# Altium integrated library TI Peripheral Bus Interface Controller.IntLib: 17 symbols (part 1 of 2)
Pins are listed as number, name and electrical type; pins without a type are passive.

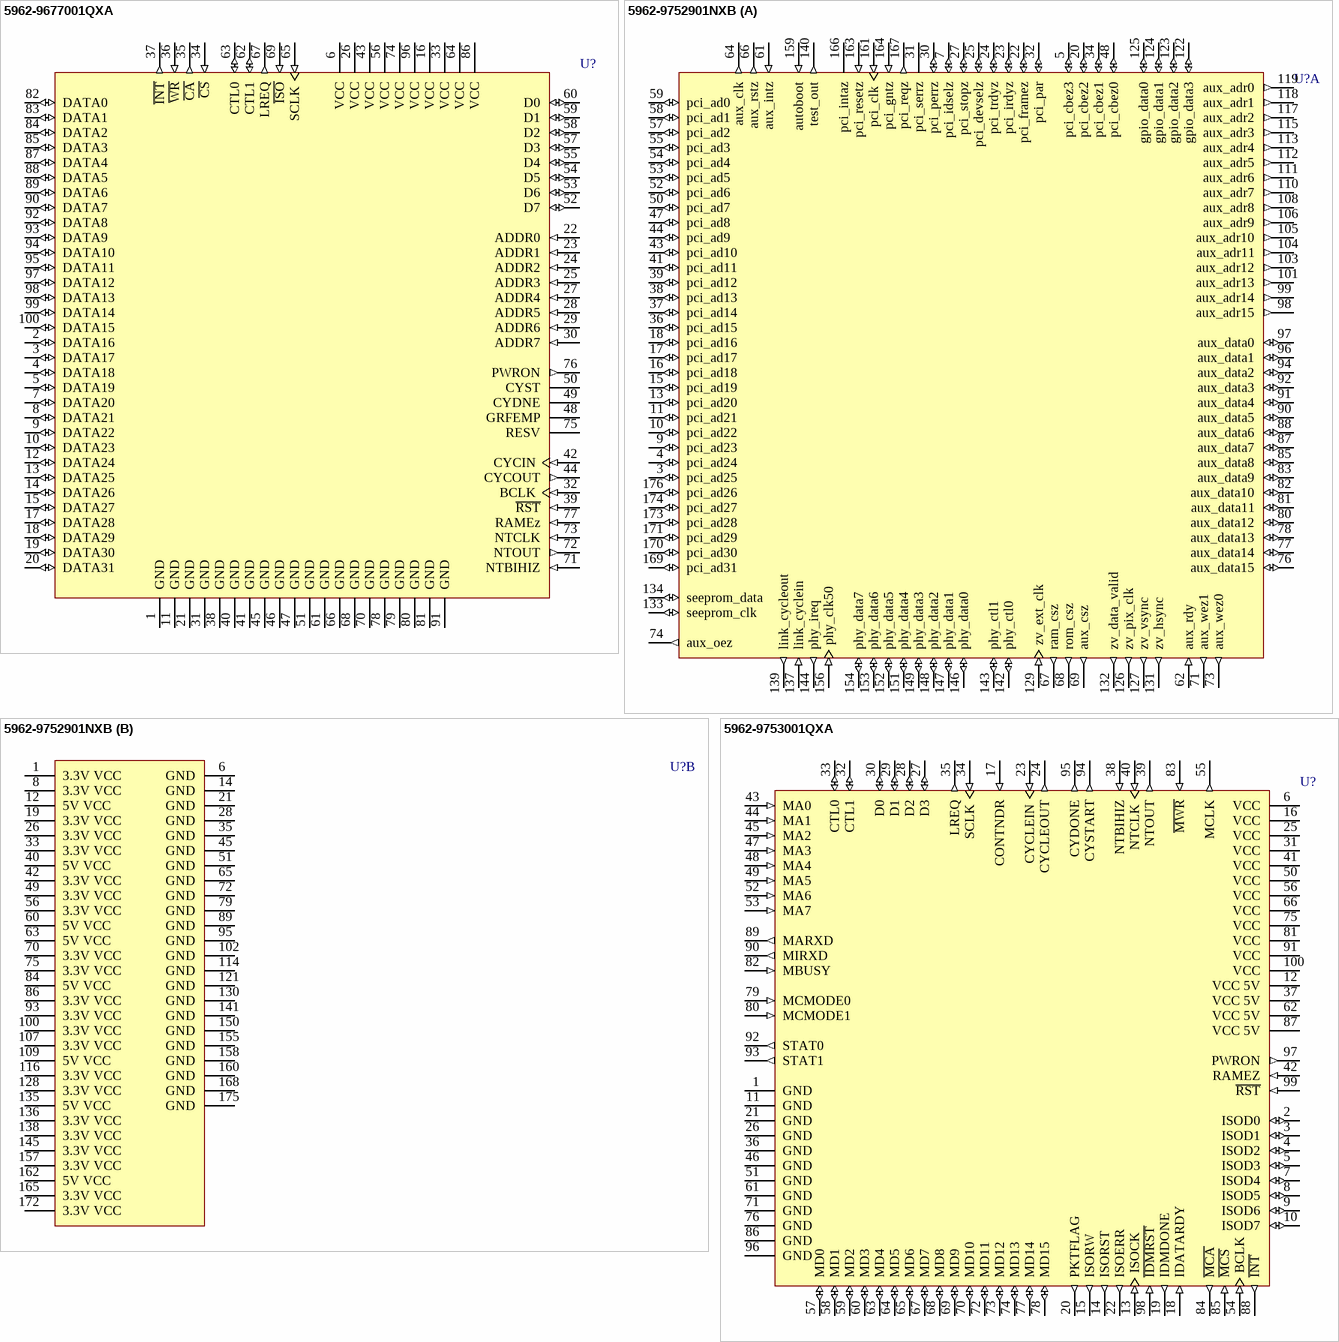
[diagram p0: symbols 5962-9677001QXA to 5962-9753001QXA]

## 5962-9677001QXA
designator U?
IEEE 1394-1995 High-Speed Serial-Bus Link-Layer Controller; Note: Pin 42 should be tied high if not used.  Pin 71 and 73 should be grounded and pin 72 open for normal operation.; ComponentAvailability: Obsolete; Published: 15-Apr-2002; LatestRevisionDate: 13-Apr-2006; LatestRevisionNote: IPC-7351 Footprint Added.; DatasheetVersion: Nov-1998; PackageVersion: Nov-1998; PackageReference: WN100; Publisher: Altium Limited; PackageDescription: 100-Pin Quad Flat Pack 0.65 mm Pitch; ComponentLink1Description: Manufacturer Link; ComponentLink1URL: http://www.ti.com/; ComponentLink2Description: Datasheet; ComponentLink2URL: http://www-s.ti.com/sc/ds/tsb12c01a.pdf
footprint WN100_N (QFP, 100-Leads, Body 19 x 19mm, Pitch 0.65mm, IPC Medium Density)
footprint WN100_L (QFP, 100-Leads, Body 19 x 19mm, Pitch 0.65mm, IPC High Density)
footprint WN100_M (QFP, 100-Leads, Body 19 x 19mm, Pitch 0.65mm, IPC Low Density)
3D model WN100 (100-Pin Quad Flat Pack 0.65 mm Pitch)
pins: 1 GND (power), 2 DATA16 (io), 3 DATA17 (io), 4 DATA18 (io), 5 DATA19 (io), 6 VCC (power), 7 DATA20 (io), 8 DATA21 (io), 9 DATA22 (io), 10 DATA23 (io), 11 GND (power), 12 DATA24 (io), 13 DATA25 (io), 14 DATA26 (io), 15 DATA27 (io), 16 VCC (power), 17 DATA28 (io), 18 DATA29 (io), 19 DATA30 (io), 20 DATA31 (io), 21 GND (power), 22 ADDR0 (in), 23 ADDR1 (in), 24 ADDR2 (in), 25 ADDR3 (in), 26 VCC (power), 27 ADDR4 (in), 28 ADDR5 (in), 29 ADDR6 (in), 30 ADDR7 (in), 31 GND (power), 32 BCLK (in), 33 VCC (power), 34 ~{CS} (in), 35 ~{CA} (out), 36 ~{WR} (in), 37 ~{INT} (out), 38 GND (power), 39 ~{RST} (in), 40 GND (power), 41 GND (power), 42 CYCIN (in), 43 VCC (power), 44 CYCOUT (out), 45 GND (power), 46 GND (power), 47 GND (power), 48 GRFEMP (hiz), 49 CYDNE (hiz), 50 CYST (hiz), 51 GND (power), 52 D7 (io), 53 D6 (io), 54 D5 (io), 55 D4 (io), 56 VCC (power), 57 D3 (io), 58 D2 (io), 59 D1 (io), 60 D0 (io), 61 GND (power), 62 CTL1 (io), 63 CTL0 (io), 64 VCC (power), 65 SCLK (in), 66 GND (power), 67 LREQ (out), 68 GND (power), 69 ~{ISO} (in), 70 GND (power), 71 NTBIHIZ (in), 72 NTOUT (out), 73 NTCLK (in), 74 VCC (power), 75 RESV, 76 PWRON (out), 77 RAMEz (in), 78 GND (power), 79 GND (power), 80 GND (power), 81 GND (power), 82 DATA0 (io), 83 DATA1 (io), 84 DATA2 (io), 85 DATA3 (io), 86 VCC (power), 87 DATA4 (io), 88 DATA5 (io), 89 DATA6 (io), 90 DATA7 (io), 91 GND (power), 92 DATA8 (io), 93 DATA9 (io), 94 DATA10 (io), 95 DATA11 (io), 96 VCC (power), 97 DATA12 (io), 98 DATA13 (io), 99 DATA14 (io), 100 DATA15 (io)

## 5962-9752901NXB
designator U?
(PCILynx) IEEE 1394-1995 Bus to PCI Bus Interface; Note: Pins 2, 29,46,120 are NC and not drawn. Refer to manufacturers data Sheets RE Power Supply Requirements with 3.3V and 5V Power Supplies; ComponentAvailability: Obsolete; Published: 15-Apr-2002; LatestRevisionDate: 13-Apr-2006; LatestRevisionNote: IPC-7351 Footprint Added.; DatasheetVersion: Apr-1997; PackageVersion: Apr-1997; PackageReference: PGF176; Publisher: Altium Limited; PackageDescription: 176-Pin Thin Quad Flat Pack 0.5 mm Pitch; ComponentLink1Description: Manufacturer Link; ComponentLink1URL: http://www.ti.com/; ComponentLink2Description: Datasheet; ComponentLink2URL: http://www-s.ti.com/sc/ds/tsb12lv21a.pdf
footprint PGF176_N (Thin QFP, 176-Leads, Body 24x24mm, Pitch 0.5mm, IPC Medium Density)
footprint PGF176_L (Thin QFP, 176-Leads, Body 24x24mm, Pitch 0.5mm, IPC High Density)
footprint PGF176_M (Thin QFP, 176-Leads, Body 24x24mm, Pitch 0.5mm, IPC Low Density)
3D model PGF176 (176-Pin Thin Quad Flat Pack 0.5 mm Pitch)
part A pins: 3 pci_ad25 (io), 4 pci_ad24 (io), 5 pci_cbez3 (io), 7 pci_idselz (io), 9 pci_ad23 (io), 10 pci_ad22 (io), 11 pci_ad21 (io), 13 pci_ad20 (io), 15 pci_ad19 (io), 16 pci_ad18 (io), 17 pci_ad17 (io), 18 pci_ad16 (io), 20 pci_cbez2 (io), 22 pci_framez (io), 23 pci_irdyz (io), 24 pci_trdyz (io), 25 pci_devselz (io), 27 pci_stopz (io), 30 pci_perrz (io), 31 pci_serrz (oc), 32 pci_par (io), 34 pci_cbez1 (io), 36 pci_ad15 (io), 37 pci_ad14 (io), 38 pci_ad13 (io), 39 pci_ad12 (io), 41 pci_ad11 (io), 43 pci_ad10 (io), 44 pci_ad9 (io), 47 pci_ad8 (io), 48 pci_cbez0 (io), 50 pci_ad7 (io), 52 pci_ad6 (io), 53 pci_ad5 (io), 54 pci_ad4 (io), 55 pci_ad3 (io), 57 pci_ad2 (io), 58 pci_ad1 (io), 59 pci_ad0 (io), 61 aux_intz (in), 62 aux_rdy (in), 64 aux_clk (out), 66 aux_rstz (out), 67 ram_csz (out), 68 rom_csz (out), 69 aux_csz (out), 71 aux_wez1 (out), 73 aux_wez0 (out), 74 aux_oez (out), 76 aux_data15 (io), 77 aux_data14 (io), 78 aux_data13 (io), 80 aux_data12 (io), 81 aux_data11 (io), 82 aux_data10 (io), 83 aux_data9 (io), 85 aux_data8 (io), 87 aux_data7 (io), 88 aux_data6 (io), 90 aux_data5 (io), 91 aux_data4 (io), 92 aux_data3 (io), 94 aux_data2 (io), 96 aux_data1 (io), 97 aux_data0 (io), 98 aux_adr15 (out), 99 aux_adr14 (out), 101 aux_adr13 (out), 103 aux_adr12 (out), 104 aux_adr11 (out), 105 aux_adr10 (out), 106 aux_adr9 (out), 108 aux_adr8 (out), 110 aux_adr7 (out), 111 aux_adr6 (out), 112 aux_adr5 (out), 113 aux_adr4 (out), 115 aux_adr3 (out), 117 aux_adr2 (out), 118 aux_adr1 (out), 119 aux_adr0 (out), 122 gpio_data3 (io), 123 gpio_data2 (io), 124 gpio_data1 (io), 125 gpio_data0 (io), 126 zv_pix_clk (out), 127 zv_vsync (out), 129 zv_ext_clk (in), 131 zv_hsync (out), 132 zv_data_valid (out), 133 seeprom_clk (io), 134 seeprom_data (io), 137 link_cyclein (in), 139 link_cycleout (out), 140 test_out (out), 142 phy_ctl0 (io), 143 phy_ctl1 (io), 144 phy_ireq (out), 146 phy_data0 (io), 147 phy_data1 (io), 148 phy_data2 (io), 149 phy_data3 (io), 151 phy_data4 (io), 152 phy_data5 (io), 153 phy_data6 (io), 154 phy_data7 (io), 156 phy_clk50 (in), 159 autoboot (in), 161 pci_clk (in), 163 pci_resetz (in), 164 pci_gntz (in), 166 pci_intaz (oc), 167 pci_reqz (out), 169 pci_ad31 (io), 170 pci_ad30 (io), 171 pci_ad29 (io), 173 pci_ad28 (io), 174 pci_ad27 (io), 176 pci_ad26 (io)
part B pins: 1 3.3V VCC (power), 6 GND (power), 8 3.3V VCC (power), 12 5V VCC (power), 14 GND (power), 19 3.3V VCC (power), 21 GND (power), 26 3.3V VCC (power), 28 GND (power), 33 3.3V VCC (power), 35 GND (power), 40 5V VCC (power), 42 3.3V VCC (power), 45 GND (power), 49 3.3V VCC (power), 51 GND (power), 56 3.3V VCC (power), 60 5V VCC (power), 63 5V VCC (power), 65 GND (power), 70 3.3V VCC (power), 72 GND (power), 75 3.3V VCC (power), 79 GND (power), 84 5V VCC (power), 86 3.3V VCC (power), 89 GND (power), 93 3.3V VCC (power), 95 GND (power), 100 3.3V VCC (power), 102 GND (power), 107 3.3V VCC (power), 109 5V VCC (power), 114 GND (power), 116 3.3V VCC (power), 121 GND (power), 128 3.3V VCC (power), 130 GND (power), 135 5V VCC (power), 136 3.3V VCC (power), 138 3.3V VCC (power), 141 GND (power), 145 3.3V VCC (power), 150 GND (power), 155 GND (power), 157 3.3V VCC (power), 158 GND (power), 160 GND (power), 162 5V VCC (power), 165 3.3V VCC (power), 168 GND (power), 172 3.3V VCC (power), 175 GND (power)

## 5962-9753001QXA
designator U?
IEEE 1394-1995 General-Purpose Link-Layer Controller; Note: Pin 23 should be tied high if not in use; ComponentAvailability: Obsolete; Published: 15-Apr-2002; LatestRevisionDate: 13-Apr-2006; LatestRevisionNote: IPC-7351 Footprint Added.; DatasheetVersion: Sep-1998; PackageVersion: Nov-1998; PackageReference: WN100; Publisher: Altium Limited; PackageDescription: 100-Pin Quad Flat Pack 0.65 mm Pitch; ComponentLink1Description: Manufacturer Link; ComponentLink1URL: http://www.ti.com/; ComponentLink2Description: Datasheet; ComponentLink2URL: http://www-s.ti.com/sc/ds/tsb12lv31.pdf
footprint WN100_N (QFP, 100-Leads, Body 19 x 19mm, Pitch 0.65mm, IPC Medium Density)
footprint WN100_L (QFP, 100-Leads, Body 19 x 19mm, Pitch 0.65mm, IPC High Density)
footprint WN100_M (QFP, 100-Leads, Body 19 x 19mm, Pitch 0.65mm, IPC Low Density)
3D model WN100 (100-Pin Quad Flat Pack 0.65 mm Pitch)
pins: 1 GND (power), 2 ISOD0 (io), 3 ISOD1 (io), 4 ISOD2 (io), 5 ISOD3 (io), 6 VCC (power), 7 ISOD4 (io), 8 ISOD5 (io), 9 ISOD6 (io), 10 ISOD7 (io), 11 GND (power), 12 VCC 5V (power), 13 ISOCK (in), 14 ISORST (out), 15 ISORW (out), 16 VCC (power), 17 CONTNDR (in), 18 IDATARDY (in), 19 IDMDONE (out), 20 PKTFLAG (out), 21 GND (power), 22 ISOERR (out), 23 CYCLEIN (in), 24 CYCLEOUT (out), 25 VCC (power), 26 GND (power), 27 D3 (io), 28 D2 (io), 29 D1 (io), 30 D0 (io), 31 VCC (power), 32 CTL1 (io), 33 CTL0 (io), 34 SCLK (in), 35 LREQ (out), 36 GND (power), 37 VCC 5V (power), 38 NTBIHIZ (in), 39 NTOUT (out), 40 NTCLK (in), 41 VCC (power), 42 RAMEZ (in), 43 MA0 (in), 44 MA1 (in), 45 MA2 (in), 46 GND (power), 47 MA3 (in), 48 MA4 (in), 49 MA5 (in), 50 VCC (power), 51 GND (power), 52 MA6 (in), 53 MA7 (in), 54 BCLK (in), 55 MCLK (out), 56 VCC (power), 57 MD0 (io), 58 MD1 (io), 59 MD2 (io), 60 MD3 (io), 61 GND (power), 62 VCC 5V (power), 63 MD4 (io), 64 MD5 (io), 65 MD6 (io), 66 VCC (power), 67 MD7 (io), 68 MD8 (io), 69 MD9 (io), 70 MD10 (io), 71 GND (power), 72 MD11 (io), 73 MD12 (io), 74 MD13 (io), 75 VCC (power), 76 GND (power), 77 MD14 (io), 78 MD15 (io), 79 MCMODE0 (in), 80 MCMODE1 (in), 81 VCC (power), 82 MBUSY (in), 83 ~{MWR} (in), 84 ~{MCA} (out), 85 ~{MCS} (in), 86 GND (power), 87 VCC 5V (power), 88 ~{INT} (out), 89 MARXD (out), 90 MIRXD (out), 91 VCC (power), 92 STAT0 (out), 93 STAT1 (out), 94 CYSTART (out), 95 CYDONE (out), 96 GND (power), 97 PWRON (out), 98 ~{IDMRST} (in), 99 ~{RST} (in), 100 VCC (power)

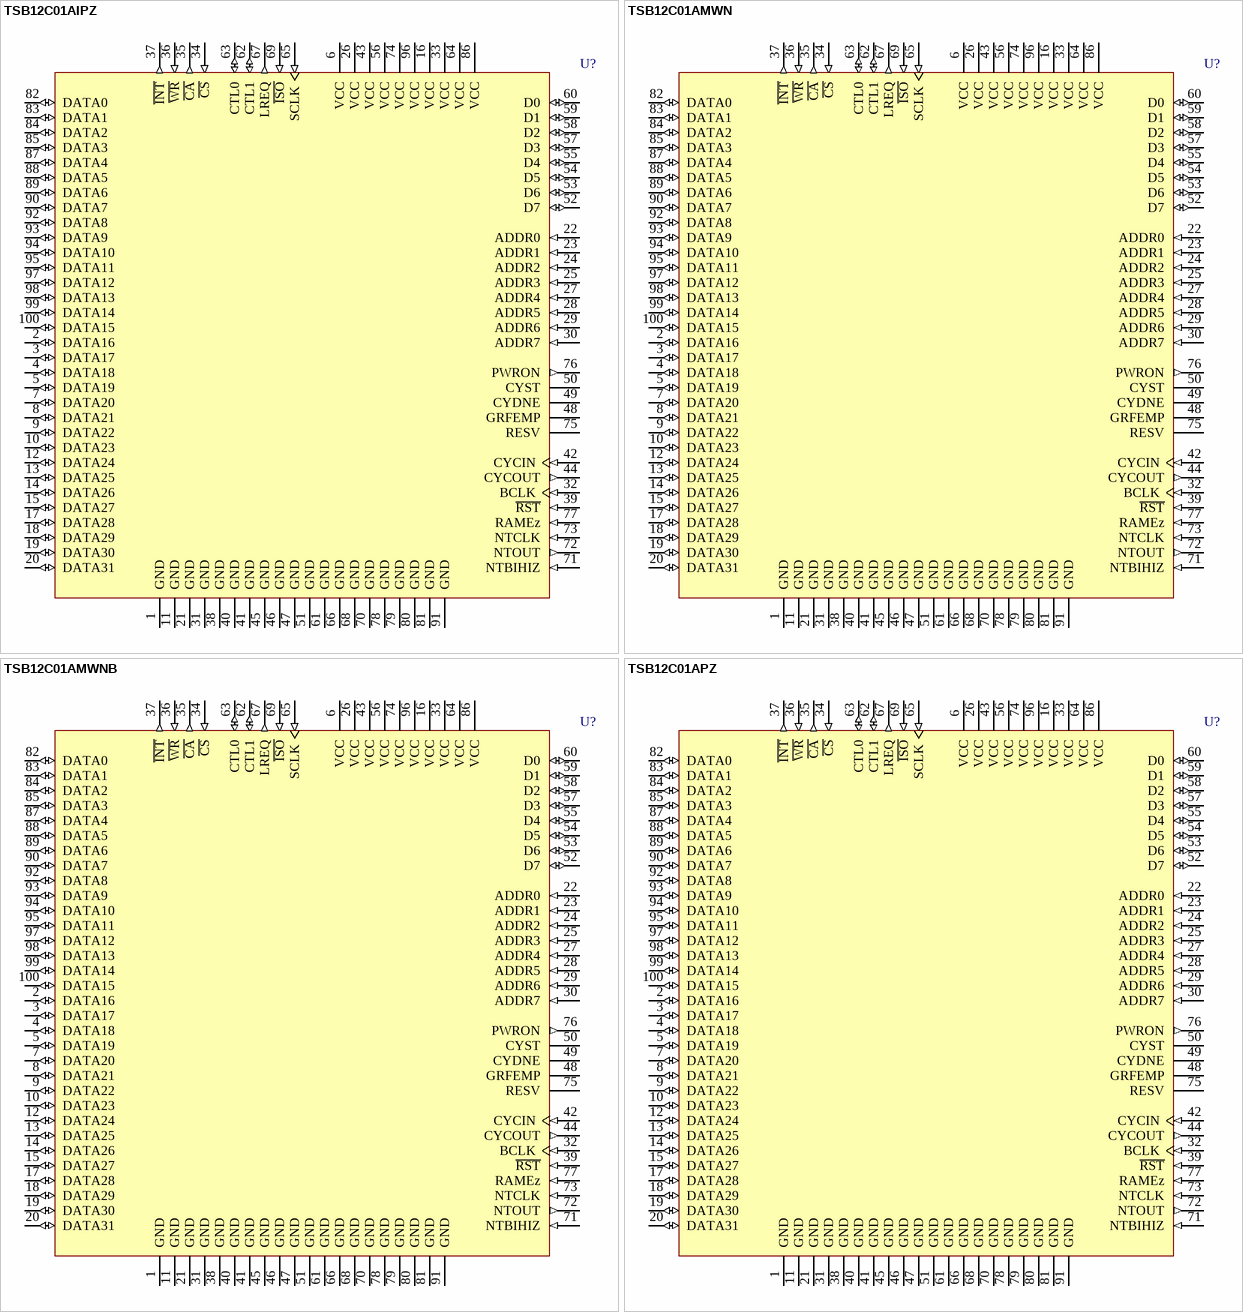
[diagram p1: symbols TSB12C01AIPZ to TSB12C01APZ]

## TSB12C01AIPZ
designator U?
IEEE 1394-1995 High-Speed Serial-Bus Link-Layer Controller; Note: Pin 42 should be tied high if not used.  Pin 71 and 73 should be grounded and pin 72 open for normal operation.; ComponentAvailability: Obsolete; Published: 15-Apr-2002; LatestRevisionDate: 13-Apr-2006; LatestRevisionNote: IPC-7351 Footprint Added.; DatasheetVersion: Nov-1998; PackageVersion: Dec-1996; PackageReference: PZ100; Publisher: Altium Limited; PackageDescription: 100-Pin Thin Quad Flat Pack 0.5 mm Pitch; ComponentLink1Description: Manufacturer Link; ComponentLink1URL: http://www.ti.com/; ComponentLink2Description: Datasheet; ComponentLink2URL: http://www-s.ti.com/sc/ds/tsb12c01a.pdf
footprint PZ100_N (Thin QFP, 100-Leads, Body 14x14mm, Pitch 0.5mm, IPC Medium Density)
footprint PZ100_L (Thin QFP, 100-Leads, Body 14x14mm, Pitch 0.5mm, IPC High Density)
footprint PZ100_M (Thin QFP, 100-Leads, Body 14x14mm, Pitch 0.5mm, IPC Low Density)
3D model TSB12C01A-PZ100 (100-Pin Thin Quad Flat Pack 0.5 mm Pitch)
pins: 1 GND (power), 2 DATA16 (io), 3 DATA17 (io), 4 DATA18 (io), 5 DATA19 (io), 6 VCC (power), 7 DATA20 (io), 8 DATA21 (io), 9 DATA22 (io), 10 DATA23 (io), 11 GND (power), 12 DATA24 (io), 13 DATA25 (io), 14 DATA26 (io), 15 DATA27 (io), 16 VCC (power), 17 DATA28 (io), 18 DATA29 (io), 19 DATA30 (io), 20 DATA31 (io), 21 GND (power), 22 ADDR0 (in), 23 ADDR1 (in), 24 ADDR2 (in), 25 ADDR3 (in), 26 VCC (power), 27 ADDR4 (in), 28 ADDR5 (in), 29 ADDR6 (in), 30 ADDR7 (in), 31 GND (power), 32 BCLK (in), 33 VCC (power), 34 ~{CS} (in), 35 ~{CA} (out), 36 ~{WR} (in), 37 ~{INT} (out), 38 GND (power), 39 ~{RST} (in), 40 GND (power), 41 GND (power), 42 CYCIN (in), 43 VCC (power), 44 CYCOUT (out), 45 GND (power), 46 GND (power), 47 GND (power), 48 GRFEMP (hiz), 49 CYDNE (hiz), 50 CYST (hiz), 51 GND (power), 52 D7 (io), 53 D6 (io), 54 D5 (io), 55 D4 (io), 56 VCC (power), 57 D3 (io), 58 D2 (io), 59 D1 (io), 60 D0 (io), 61 GND (power), 62 CTL1 (io), 63 CTL0 (io), 64 VCC (power), 65 SCLK (in), 66 GND (power), 67 LREQ (out), 68 GND (power), 69 ~{ISO} (in), 70 GND (power), 71 NTBIHIZ (in), 72 NTOUT (out), 73 NTCLK (in), 74 VCC (power), 75 RESV, 76 PWRON (out), 77 RAMEz (in), 78 GND (power), 79 GND (power), 80 GND (power), 81 GND (power), 82 DATA0 (io), 83 DATA1 (io), 84 DATA2 (io), 85 DATA3 (io), 86 VCC (power), 87 DATA4 (io), 88 DATA5 (io), 89 DATA6 (io), 90 DATA7 (io), 91 GND (power), 92 DATA8 (io), 93 DATA9 (io), 94 DATA10 (io), 95 DATA11 (io), 96 VCC (power), 97 DATA12 (io), 98 DATA13 (io), 99 DATA14 (io), 100 DATA15 (io)

## TSB12C01AMWN
designator U?
IEEE 1394-1995 High-Speed Serial-Bus Link-Layer Controller; Note: Pin 42 should be tied high if not used.  Pin 71 and 73 should be grounded and pin 72 open for normal operation.; ComponentAvailability: Obsolete; Published: 15-Apr-2002; LatestRevisionDate: 13-Apr-2006; LatestRevisionNote: IPC-7351 Footprint Added.; DatasheetVersion: Nov-1998; PackageVersion: Nov-1998; PackageReference: WN100; Publisher: Altium Limited; PackageDescription: 100-Pin Quad Flat Pack 0.65 mm Pitch; ComponentLink1Description: Manufacturer Link; ComponentLink1URL: http://www.ti.com/; ComponentLink2Description: Datasheet; ComponentLink2URL: http://www-s.ti.com/sc/ds/tsb12c01a.pdf
footprint WN100_N (QFP, 100-Leads, Body 19 x 19mm, Pitch 0.65mm, IPC Medium Density)
footprint WN100_L (QFP, 100-Leads, Body 19 x 19mm, Pitch 0.65mm, IPC High Density)
footprint WN100_M (QFP, 100-Leads, Body 19 x 19mm, Pitch 0.65mm, IPC Low Density)
3D model TSB12C01A-WN100 (100-Pin Quad Flat Pack 0.65 mm Pitch)
pins: 1 GND (power), 2 DATA16 (io), 3 DATA17 (io), 4 DATA18 (io), 5 DATA19 (io), 6 VCC (power), 7 DATA20 (io), 8 DATA21 (io), 9 DATA22 (io), 10 DATA23 (io), 11 GND (power), 12 DATA24 (io), 13 DATA25 (io), 14 DATA26 (io), 15 DATA27 (io), 16 VCC (power), 17 DATA28 (io), 18 DATA29 (io), 19 DATA30 (io), 20 DATA31 (io), 21 GND (power), 22 ADDR0 (in), 23 ADDR1 (in), 24 ADDR2 (in), 25 ADDR3 (in), 26 VCC (power), 27 ADDR4 (in), 28 ADDR5 (in), 29 ADDR6 (in), 30 ADDR7 (in), 31 GND (power), 32 BCLK (in), 33 VCC (power), 34 ~{CS} (in), 35 ~{CA} (out), 36 ~{WR} (in), 37 ~{INT} (out), 38 GND (power), 39 ~{RST} (in), 40 GND (power), 41 GND (power), 42 CYCIN (in), 43 VCC (power), 44 CYCOUT (out), 45 GND (power), 46 GND (power), 47 GND (power), 48 GRFEMP (hiz), 49 CYDNE (hiz), 50 CYST (hiz), 51 GND (power), 52 D7 (io), 53 D6 (io), 54 D5 (io), 55 D4 (io), 56 VCC (power), 57 D3 (io), 58 D2 (io), 59 D1 (io), 60 D0 (io), 61 GND (power), 62 CTL1 (io), 63 CTL0 (io), 64 VCC (power), 65 SCLK (in), 66 GND (power), 67 LREQ (out), 68 GND (power), 69 ~{ISO} (in), 70 GND (power), 71 NTBIHIZ (in), 72 NTOUT (out), 73 NTCLK (in), 74 VCC (power), 75 RESV, 76 PWRON (out), 77 RAMEz (in), 78 GND (power), 79 GND (power), 80 GND (power), 81 GND (power), 82 DATA0 (io), 83 DATA1 (io), 84 DATA2 (io), 85 DATA3 (io), 86 VCC (power), 87 DATA4 (io), 88 DATA5 (io), 89 DATA6 (io), 90 DATA7 (io), 91 GND (power), 92 DATA8 (io), 93 DATA9 (io), 94 DATA10 (io), 95 DATA11 (io), 96 VCC (power), 97 DATA12 (io), 98 DATA13 (io), 99 DATA14 (io), 100 DATA15 (io)

## TSB12C01AMWNB
designator U?
IEEE 1394-1995 High-Speed Serial-Bus Link-Layer Controller; Note: Pin 42 should be tied high if not used.  Pin 71 and 73 should be grounded and pin 72 open for normal operation.; ComponentAvailability: Obsolete; Published: 15-Apr-2002; LatestRevisionDate: 13-Apr-2006; LatestRevisionNote: IPC-7351 Footprint Added.; DatasheetVersion: Nov-1998; PackageVersion: Nov-1998; PackageReference: WN100; Publisher: Altium Limited; PackageDescription: 100-Pin Quad Flat Pack 0.65 mm Pitch; ComponentLink1Description: Manufacturer Link; ComponentLink1URL: http://www.ti.com/; ComponentLink2Description: Datasheet; ComponentLink2URL: http://www-s.ti.com/sc/ds/tsb12c01a.pdf
footprint WN100_N (QFP, 100-Leads, Body 19 x 19mm, Pitch 0.65mm, IPC Medium Density)
footprint WN100_L (QFP, 100-Leads, Body 19 x 19mm, Pitch 0.65mm, IPC High Density)
footprint WN100_M (QFP, 100-Leads, Body 19 x 19mm, Pitch 0.65mm, IPC Low Density)
3D model TSB12C01A-WN100 (100-Pin Quad Flat Pack 0.65 mm Pitch)
pins: 1 GND (power), 2 DATA16 (io), 3 DATA17 (io), 4 DATA18 (io), 5 DATA19 (io), 6 VCC (power), 7 DATA20 (io), 8 DATA21 (io), 9 DATA22 (io), 10 DATA23 (io), 11 GND (power), 12 DATA24 (io), 13 DATA25 (io), 14 DATA26 (io), 15 DATA27 (io), 16 VCC (power), 17 DATA28 (io), 18 DATA29 (io), 19 DATA30 (io), 20 DATA31 (io), 21 GND (power), 22 ADDR0 (in), 23 ADDR1 (in), 24 ADDR2 (in), 25 ADDR3 (in), 26 VCC (power), 27 ADDR4 (in), 28 ADDR5 (in), 29 ADDR6 (in), 30 ADDR7 (in), 31 GND (power), 32 BCLK (in), 33 VCC (power), 34 ~{CS} (in), 35 ~{CA} (out), 36 ~{WR} (in), 37 ~{INT} (out), 38 GND (power), 39 ~{RST} (in), 40 GND (power), 41 GND (power), 42 CYCIN (in), 43 VCC (power), 44 CYCOUT (out), 45 GND (power), 46 GND (power), 47 GND (power), 48 GRFEMP (hiz), 49 CYDNE (hiz), 50 CYST (hiz), 51 GND (power), 52 D7 (io), 53 D6 (io), 54 D5 (io), 55 D4 (io), 56 VCC (power), 57 D3 (io), 58 D2 (io), 59 D1 (io), 60 D0 (io), 61 GND (power), 62 CTL1 (io), 63 CTL0 (io), 64 VCC (power), 65 SCLK (in), 66 GND (power), 67 LREQ (out), 68 GND (power), 69 ~{ISO} (in), 70 GND (power), 71 NTBIHIZ (in), 72 NTOUT (out), 73 NTCLK (in), 74 VCC (power), 75 RESV, 76 PWRON (out), 77 RAMEz (in), 78 GND (power), 79 GND (power), 80 GND (power), 81 GND (power), 82 DATA0 (io), 83 DATA1 (io), 84 DATA2 (io), 85 DATA3 (io), 86 VCC (power), 87 DATA4 (io), 88 DATA5 (io), 89 DATA6 (io), 90 DATA7 (io), 91 GND (power), 92 DATA8 (io), 93 DATA9 (io), 94 DATA10 (io), 95 DATA11 (io), 96 VCC (power), 97 DATA12 (io), 98 DATA13 (io), 99 DATA14 (io), 100 DATA15 (io)

## TSB12C01APZ
designator U?
IEEE 1394-1995 High-Speed Serial-Bus Link-Layer Controller; Note: Pin 42 should be tied high if not used.  Pin 71 and 73 should be grounded and pin 72 open for normal operation.; ComponentAvailability: Obsolete; Published: 15-Apr-2002; LatestRevisionDate: 13-Apr-2006; LatestRevisionNote: IPC-7351 Footprint Added.; DatasheetVersion: Nov-1998; PackageVersion: Dec-1996; PackageReference: PZ100; Publisher: Altium Limited; PackageDescription: 100-Pin Thin Quad Flat Pack 0.5 mm Pitch; ComponentLink1Description: Manufacturer Link; ComponentLink1URL: http://www.ti.com/; ComponentLink2Description: Datasheet; ComponentLink2URL: http://www-s.ti.com/sc/ds/tsb12c01a.pdf
footprint PZ100_N (Thin QFP, 100-Leads, Body 14x14mm, Pitch 0.5mm, IPC Medium Density)
footprint PZ100_L (Thin QFP, 100-Leads, Body 14x14mm, Pitch 0.5mm, IPC High Density)
footprint PZ100_M (Thin QFP, 100-Leads, Body 14x14mm, Pitch 0.5mm, IPC Low Density)
3D model TSB12C01A-PZ100 (100-Pin Thin Quad Flat Pack 0.5 mm Pitch)
pins: 1 GND (power), 2 DATA16 (io), 3 DATA17 (io), 4 DATA18 (io), 5 DATA19 (io), 6 VCC (power), 7 DATA20 (io), 8 DATA21 (io), 9 DATA22 (io), 10 DATA23 (io), 11 GND (power), 12 DATA24 (io), 13 DATA25 (io), 14 DATA26 (io), 15 DATA27 (io), 16 VCC (power), 17 DATA28 (io), 18 DATA29 (io), 19 DATA30 (io), 20 DATA31 (io), 21 GND (power), 22 ADDR0 (in), 23 ADDR1 (in), 24 ADDR2 (in), 25 ADDR3 (in), 26 VCC (power), 27 ADDR4 (in), 28 ADDR5 (in), 29 ADDR6 (in), 30 ADDR7 (in), 31 GND (power), 32 BCLK (in), 33 VCC (power), 34 ~{CS} (in), 35 ~{CA} (out), 36 ~{WR} (in), 37 ~{INT} (out), 38 GND (power), 39 ~{RST} (in), 40 GND (power), 41 GND (power), 42 CYCIN (in), 43 VCC (power), 44 CYCOUT (out), 45 GND (power), 46 GND (power), 47 GND (power), 48 GRFEMP (hiz), 49 CYDNE (hiz), 50 CYST (hiz), 51 GND (power), 52 D7 (io), 53 D6 (io), 54 D5 (io), 55 D4 (io), 56 VCC (power), 57 D3 (io), 58 D2 (io), 59 D1 (io), 60 D0 (io), 61 GND (power), 62 CTL1 (io), 63 CTL0 (io), 64 VCC (power), 65 SCLK (in), 66 GND (power), 67 LREQ (out), 68 GND (power), 69 ~{ISO} (in), 70 GND (power), 71 NTBIHIZ (in), 72 NTOUT (out), 73 NTCLK (in), 74 VCC (power), 75 RESV, 76 PWRON (out), 77 RAMEz (in), 78 GND (power), 79 GND (power), 80 GND (power), 81 GND (power), 82 DATA0 (io), 83 DATA1 (io), 84 DATA2 (io), 85 DATA3 (io), 86 VCC (power), 87 DATA4 (io), 88 DATA5 (io), 89 DATA6 (io), 90 DATA7 (io), 91 GND (power), 92 DATA8 (io), 93 DATA9 (io), 94 DATA10 (io), 95 DATA11 (io), 96 VCC (power), 97 DATA12 (io), 98 DATA13 (io), 99 DATA14 (io), 100 DATA15 (io)

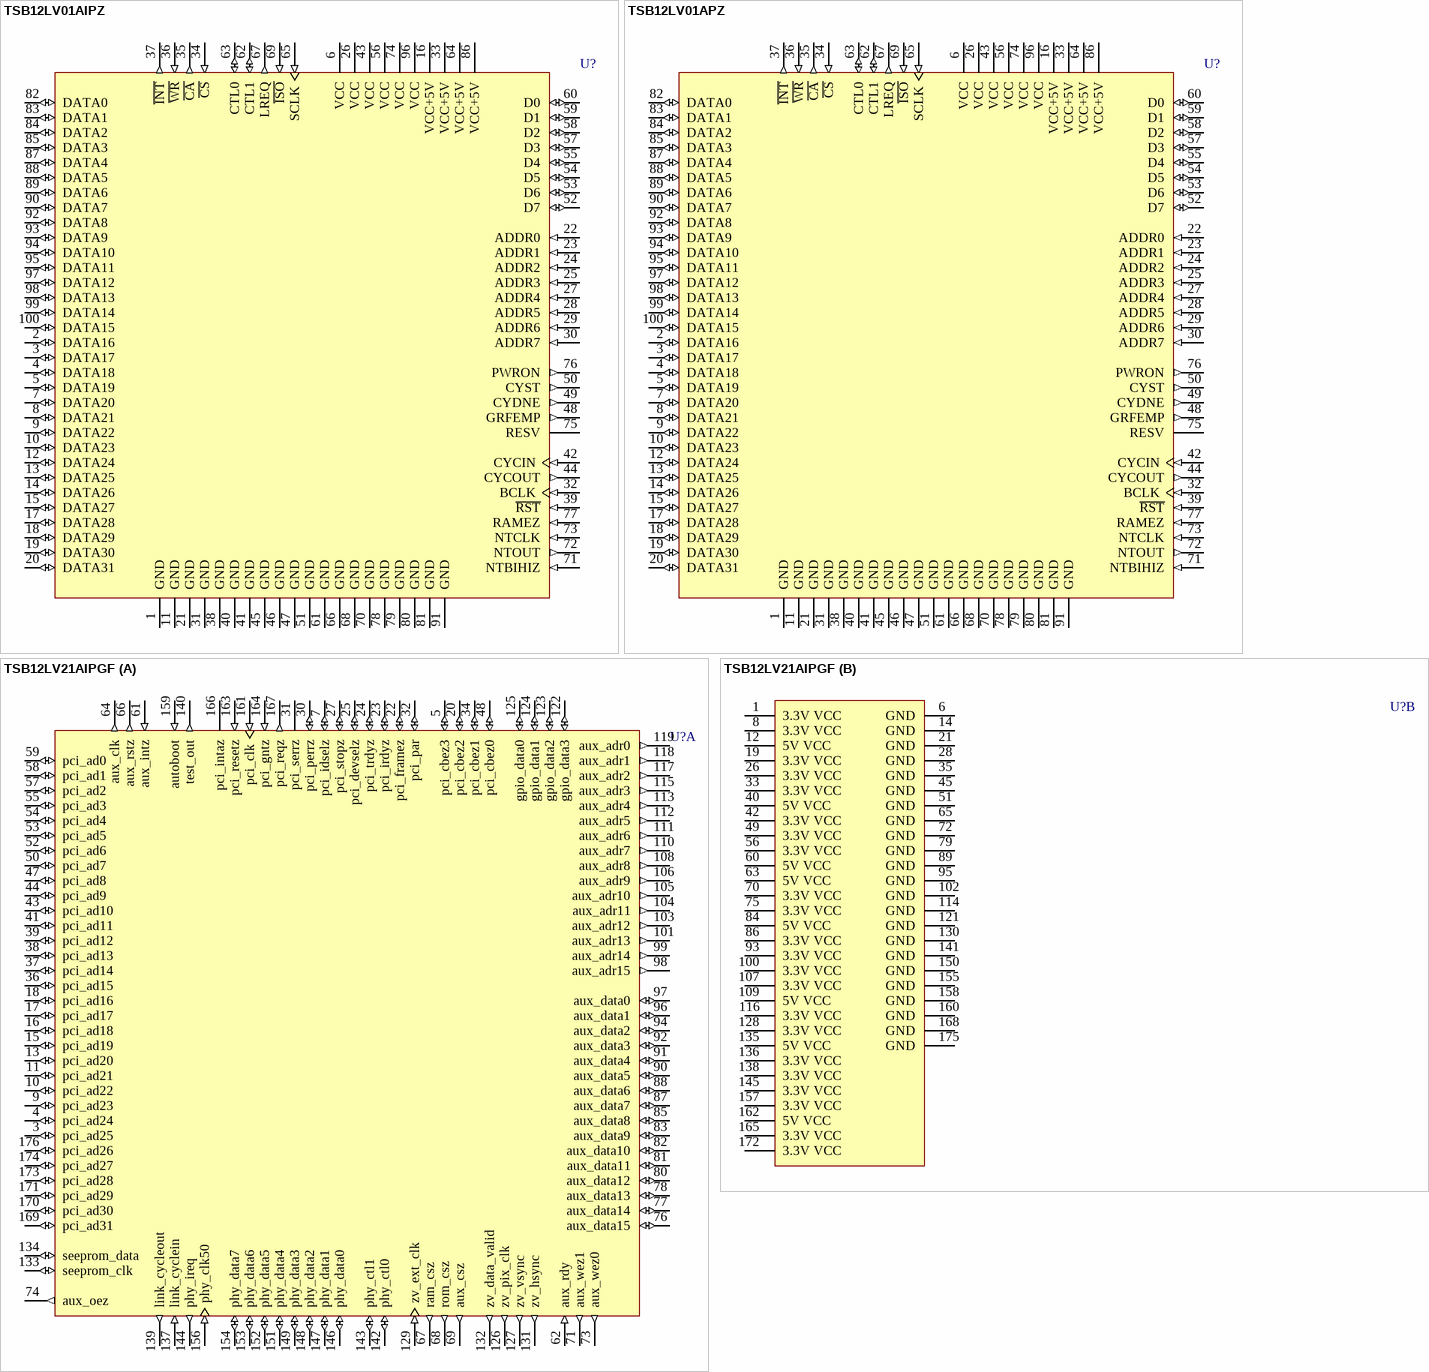
[diagram p2: symbols TSB12LV01AIPZ to TSB12LV21AIPGF]

## TSB12LV01AIPZ
designator U?
IEEE 1394-1995 High-Speed Serial-Bus Link-Layer Controller; Note: Pin 42 should be tied high if not used; ComponentAvailability: Obsolete; Published: 15-Apr-2002; LatestRevisionDate: 13-Apr-2006; LatestRevisionNote: IPC-7351 Footprint Added.; DatasheetVersion: Feb-2000; PackageVersion: Dec-1996; PackageReference: PZ100; Publisher: Altium Limited; PackageDescription: 100-Pin Thin Quad Flat Pack 0.5 mm Pitch; ComponentLink1Description: Manufacturer Link; ComponentLink1URL: http://www.ti.com/; ComponentLink2Description: Datasheet; ComponentLink2URL: http://www-s.ti.com/sc/ds/tsb12lv01a.pdf
footprint PZ100_N (Thin QFP, 100-Leads, Body 14x14mm, Pitch 0.5mm, IPC Medium Density)
footprint PZ100_L (Thin QFP, 100-Leads, Body 14x14mm, Pitch 0.5mm, IPC High Density)
footprint PZ100_M (Thin QFP, 100-Leads, Body 14x14mm, Pitch 0.5mm, IPC Low Density)
3D model TSB12LV01A-PZ100 (100-Pin Thin Quad Flat Pack 0.5 mm Pitch)
pins: 1 GND (power), 2 DATA16 (io), 3 DATA17 (io), 4 DATA18 (io), 5 DATA19 (io), 6 VCC (power), 7 DATA20 (io), 8 DATA21 (io), 9 DATA22 (io), 10 DATA23 (io), 11 GND (power), 12 DATA24 (io), 13 DATA25 (io), 14 DATA26 (io), 15 DATA27 (io), 16 VCC+5V (power), 17 DATA28 (io), 18 DATA29 (io), 19 DATA30 (io), 20 DATA31 (io), 21 GND (power), 22 ADDR0 (in), 23 ADDR1 (in), 24 ADDR2 (in), 25 ADDR3 (in), 26 VCC (power), 27 ADDR4 (in), 28 ADDR5 (in), 29 ADDR6 (in), 30 ADDR7 (in), 31 GND (power), 32 BCLK (in), 33 VCC+5V (power), 34 ~{CS} (in), 35 ~{CA} (out), 36 ~{WR} (in), 37 ~{INT} (out), 38 GND (power), 39 ~{RST} (in), 40 GND (power), 41 GND (power), 42 CYCIN (in), 43 VCC (power), 44 CYCOUT (out), 45 GND (power), 46 GND (power), 47 GND (power), 48 GRFEMP (out), 49 CYDNE (out), 50 CYST (out), 51 GND (power), 52 D7 (io), 53 D6 (io), 54 D5 (io), 55 D4 (io), 56 VCC (power), 57 D3 (io), 58 D2 (io), 59 D1 (io), 60 D0 (io), 61 GND (power), 62 CTL1 (io), 63 CTL0 (io), 64 VCC+5V (power), 65 SCLK (in), 66 GND (power), 67 LREQ (out), 68 GND (power), 69 ~{ISO} (in), 70 GND (power), 71 NTBIHIZ (in), 72 NTOUT (out), 73 NTCLK (in), 74 VCC (power), 75 RESV, 76 PWRON (out), 77 RAMEZ (in), 78 GND (power), 79 GND (power), 80 GND (power), 81 GND (power), 82 DATA0 (io), 83 DATA1 (io), 84 DATA2 (io), 85 DATA3 (io), 86 VCC+5V (power), 87 DATA4 (io), 88 DATA5 (io), 89 DATA6 (io), 90 DATA7 (io), 91 GND (power), 92 DATA8 (io), 93 DATA9 (io), 94 DATA10 (io), 95 DATA11 (io), 96 VCC (power), 97 DATA12 (io), 98 DATA13 (io), 99 DATA14 (io), 100 DATA15 (io)

## TSB12LV01APZ
designator U?
IEEE 1394-1995 High-Speed Serial-Bus Link-Layer Controller; Note: Pin 42 should be tied high if not used.  Pin 71 and 73 should be grounded and pin 72 left open for normal operation; ComponentAvailability: Obsolete; Published: 15-Apr-2002; LatestRevisionDate: 13-Apr-2006; LatestRevisionNote: IPC-7351 Footprint Added.; DatasheetVersion: Feb-2000; PackageVersion: Dec-1996; PackageReference: PZ100; Publisher: Altium Limited; PackageDescription: 100-Pin Thin Quad Flat Pack 0.5 mm Pitch; ComponentLink1Description: Manufacturer Link; ComponentLink1URL: http://www.ti.com/; ComponentLink2Description: Datasheet; ComponentLink2URL: http://www-s.ti.com/sc/ds/tsb12lv01a.pdf
footprint PZ100_N (Thin QFP, 100-Leads, Body 14x14mm, Pitch 0.5mm, IPC Medium Density)
footprint PZ100_L (Thin QFP, 100-Leads, Body 14x14mm, Pitch 0.5mm, IPC High Density)
footprint PZ100_M (Thin QFP, 100-Leads, Body 14x14mm, Pitch 0.5mm, IPC Low Density)
3D model TSB12LV01A-PZ100 (100-Pin Thin Quad Flat Pack 0.5 mm Pitch)
pins: 1 GND (power), 2 DATA16 (io), 3 DATA17 (io), 4 DATA18 (io), 5 DATA19 (io), 6 VCC (power), 7 DATA20 (io), 8 DATA21 (io), 9 DATA22 (io), 10 DATA23 (io), 11 GND (power), 12 DATA24 (io), 13 DATA25 (io), 14 DATA26 (io), 15 DATA27 (io), 16 VCC+5V (power), 17 DATA28 (io), 18 DATA29 (io), 19 DATA30 (io), 20 DATA31 (io), 21 GND (power), 22 ADDR0 (in), 23 ADDR1 (in), 24 ADDR2 (in), 25 ADDR3 (in), 26 VCC (power), 27 ADDR4 (in), 28 ADDR5 (in), 29 ADDR6 (in), 30 ADDR7 (in), 31 GND (power), 32 BCLK (in), 33 VCC+5V (power), 34 ~{CS} (in), 35 ~{CA} (out), 36 ~{WR} (in), 37 ~{INT} (out), 38 GND (power), 39 ~{RST} (in), 40 GND (power), 41 GND (power), 42 CYCIN (in), 43 VCC (power), 44 CYCOUT (out), 45 GND (power), 46 GND (power), 47 GND (power), 48 GRFEMP (out), 49 CYDNE (out), 50 CYST (out), 51 GND (power), 52 D7 (io), 53 D6 (io), 54 D5 (io), 55 D4 (io), 56 VCC (power), 57 D3 (io), 58 D2 (io), 59 D1 (io), 60 D0 (io), 61 GND (power), 62 CTL1 (io), 63 CTL0 (io), 64 VCC+5V (power), 65 SCLK (in), 66 GND (power), 67 LREQ (out), 68 GND (power), 69 ~{ISO} (in), 70 GND (power), 71 NTBIHIZ (in), 72 NTOUT (out), 73 NTCLK (in), 74 VCC (power), 75 RESV, 76 PWRON (out), 77 RAMEZ (in), 78 GND (power), 79 GND (power), 80 GND (power), 81 GND (power), 82 DATA0 (io), 83 DATA1 (io), 84 DATA2 (io), 85 DATA3 (io), 86 VCC+5V (power), 87 DATA4 (io), 88 DATA5 (io), 89 DATA6 (io), 90 DATA7 (io), 91 GND (power), 92 DATA8 (io), 93 DATA9 (io), 94 DATA10 (io), 95 DATA11 (io), 96 VCC (power), 97 DATA12 (io), 98 DATA13 (io), 99 DATA14 (io), 100 DATA15 (io)

## TSB12LV21AIPGF
designator U?
(PCILynx) IEEE 1394-1995 Bus to PCI Bus Interface; Note: Pins 2, 29,46,120 are NC and not drawn. Refer to manufacturers data Sheets RE Power Supply Requirements with 3.3V and 5V Power Supplies; ComponentAvailability: Obsolete; Published: 15-Apr-2002; LatestRevisionDate: 13-Apr-2006; LatestRevisionNote: IPC-7351 Footprint Added.; DatasheetVersion: Apr-1997; PackageVersion: Apr-1997; PackageReference: PGF176; Publisher: Altium Limited; PackageDescription: 176-Pin Thin Quad Flat Pack 0.5 mm Pitch; ComponentLink1Description: Manufacturer Link; ComponentLink1URL: http://www.ti.com/; ComponentLink2Description: Datasheet; ComponentLink2URL: http://www-s.ti.com/sc/ds/tsb12lv21a.pdf
footprint PGF176_N (Thin QFP, 176-Leads, Body 24x24mm, Pitch 0.5mm, IPC Medium Density)
footprint PGF176_L (Thin QFP, 176-Leads, Body 24x24mm, Pitch 0.5mm, IPC High Density)
footprint PGF176_M (Thin QFP, 176-Leads, Body 24x24mm, Pitch 0.5mm, IPC Low Density)
3D model TSB12LV21A-PGF176 (176-Pin Thin Quad Flat Pack 0.5 mm Pitch)
part A pins: 3 pci_ad25 (io), 4 pci_ad24 (io), 5 pci_cbez3 (io), 7 pci_idselz (io), 9 pci_ad23 (io), 10 pci_ad22 (io), 11 pci_ad21 (io), 13 pci_ad20 (io), 15 pci_ad19 (io), 16 pci_ad18 (io), 17 pci_ad17 (io), 18 pci_ad16 (io), 20 pci_cbez2 (io), 22 pci_framez (io), 23 pci_irdyz (io), 24 pci_trdyz (io), 25 pci_devselz (io), 27 pci_stopz (io), 30 pci_perrz (io), 31 pci_serrz (oc), 32 pci_par (io), 34 pci_cbez1 (io), 36 pci_ad15 (io), 37 pci_ad14 (io), 38 pci_ad13 (io), 39 pci_ad12 (io), 41 pci_ad11 (io), 43 pci_ad10 (io), 44 pci_ad9 (io), 47 pci_ad8 (io), 48 pci_cbez0 (io), 50 pci_ad7 (io), 52 pci_ad6 (io), 53 pci_ad5 (io), 54 pci_ad4 (io), 55 pci_ad3 (io), 57 pci_ad2 (io), 58 pci_ad1 (io), 59 pci_ad0 (io), 61 aux_intz (in), 62 aux_rdy (in), 64 aux_clk (out), 66 aux_rstz (out), 67 ram_csz (out), 68 rom_csz (out), 69 aux_csz (out), 71 aux_wez1 (out), 73 aux_wez0 (out), 74 aux_oez (out), 76 aux_data15 (io), 77 aux_data14 (io), 78 aux_data13 (io), 80 aux_data12 (io), 81 aux_data11 (io), 82 aux_data10 (io), 83 aux_data9 (io), 85 aux_data8 (io), 87 aux_data7 (io), 88 aux_data6 (io), 90 aux_data5 (io), 91 aux_data4 (io), 92 aux_data3 (io), 94 aux_data2 (io), 96 aux_data1 (io), 97 aux_data0 (io), 98 aux_adr15 (out), 99 aux_adr14 (out), 101 aux_adr13 (out), 103 aux_adr12 (out), 104 aux_adr11 (out), 105 aux_adr10 (out), 106 aux_adr9 (out), 108 aux_adr8 (out), 110 aux_adr7 (out), 111 aux_adr6 (out), 112 aux_adr5 (out), 113 aux_adr4 (out), 115 aux_adr3 (out), 117 aux_adr2 (out), 118 aux_adr1 (out), 119 aux_adr0 (out), 122 gpio_data3 (io), 123 gpio_data2 (io), 124 gpio_data1 (io), 125 gpio_data0 (io), 126 zv_pix_clk (out), 127 zv_vsync (out), 129 zv_ext_clk (in), 131 zv_hsync (out), 132 zv_data_valid (out), 133 seeprom_clk (io), 134 seeprom_data (io), 137 link_cyclein (in), 139 link_cycleout (out), 140 test_out (out), 142 phy_ctl0 (io), 143 phy_ctl1 (io), 144 phy_ireq (out), 146 phy_data0 (io), 147 phy_data1 (io), 148 phy_data2 (io), 149 phy_data3 (io), 151 phy_data4 (io), 152 phy_data5 (io), 153 phy_data6 (io), 154 phy_data7 (io), 156 phy_clk50 (in), 159 autoboot (in), 161 pci_clk (in), 163 pci_resetz (in), 164 pci_gntz (in), 166 pci_intaz (oc), 167 pci_reqz (out), 169 pci_ad31 (io), 170 pci_ad30 (io), 171 pci_ad29 (io), 173 pci_ad28 (io), 174 pci_ad27 (io), 176 pci_ad26 (io)
part B pins: 1 3.3V VCC (power), 6 GND (power), 8 3.3V VCC (power), 12 5V VCC (power), 14 GND (power), 19 3.3V VCC (power), 21 GND (power), 26 3.3V VCC (power), 28 GND (power), 33 3.3V VCC (power), 35 GND (power), 40 5V VCC (power), 42 3.3V VCC (power), 45 GND (power), 49 3.3V VCC (power), 51 GND (power), 56 3.3V VCC (power), 60 5V VCC (power), 63 5V VCC (power), 65 GND (power), 70 3.3V VCC (power), 72 GND (power), 75 3.3V VCC (power), 79 GND (power), 84 5V VCC (power), 86 3.3V VCC (power), 89 GND (power), 93 3.3V VCC (power), 95 GND (power), 100 3.3V VCC (power), 102 GND (power), 107 3.3V VCC (power), 109 5V VCC (power), 114 GND (power), 116 3.3V VCC (power), 121 GND (power), 128 3.3V VCC (power), 130 GND (power), 135 5V VCC (power), 136 3.3V VCC (power), 138 3.3V VCC (power), 141 GND (power), 145 3.3V VCC (power), 150 GND (power), 155 GND (power), 157 3.3V VCC (power), 158 GND (power), 160 GND (power), 162 5V VCC (power), 165 3.3V VCC (power), 168 GND (power), 172 3.3V VCC (power), 175 GND (power)

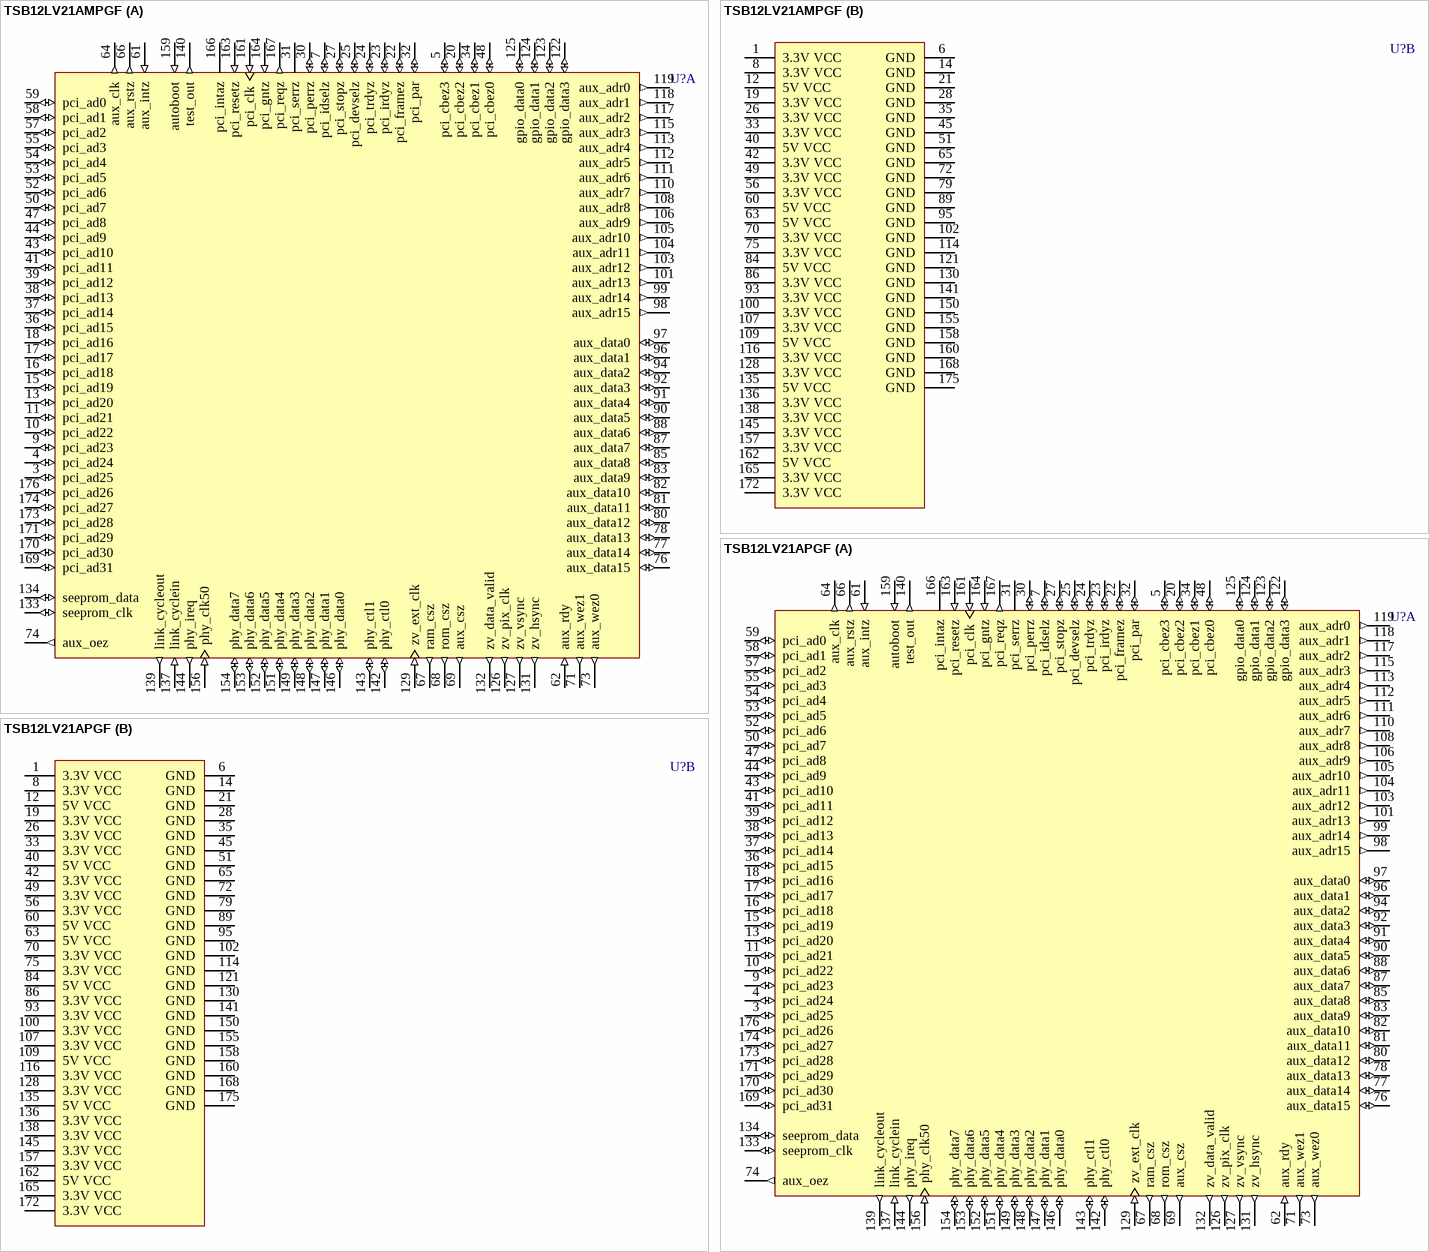
[diagram p3: symbols TSB12LV21AMPGF to TSB12LV21APGF]

## TSB12LV21AMPGF
designator U?
(PCILynx) IEEE 1394-1995 Bus to PCI Bus Interface; Note: Pins 2, 29,46,120 are NC and not drawn. Refer to manufacturers data Sheets RE Power Supply Requirements with 3.3V and 5V Power Supplies; ComponentAvailability: Obsolete; Published: 15-Apr-2002; LatestRevisionDate: 13-Apr-2006; LatestRevisionNote: IPC-7351 Footprint Added.; DatasheetVersion: Apr-1997; PackageVersion: Apr-1997; PackageReference: PGF176; Publisher: Altium Limited; PackageDescription: 176-Pin Thin Quad Flat Pack 0.5 mm Pitch; ComponentLink1Description: Manufacturer Link; ComponentLink1URL: http://www.ti.com/; ComponentLink2Description: Datasheet; ComponentLink2URL: http://www-s.ti.com/sc/ds/tsb12lv21a.pdf
footprint PGF176_N (Thin QFP, 176-Leads, Body 24x24mm, Pitch 0.5mm, IPC Medium Density)
footprint PGF176_L (Thin QFP, 176-Leads, Body 24x24mm, Pitch 0.5mm, IPC High Density)
footprint PGF176_M (Thin QFP, 176-Leads, Body 24x24mm, Pitch 0.5mm, IPC Low Density)
3D model TSB12LV21A-PGF176 (176-Pin Thin Quad Flat Pack 0.5 mm Pitch)
part A pins: 3 pci_ad25 (io), 4 pci_ad24 (io), 5 pci_cbez3 (io), 7 pci_idselz (io), 9 pci_ad23 (io), 10 pci_ad22 (io), 11 pci_ad21 (io), 13 pci_ad20 (io), 15 pci_ad19 (io), 16 pci_ad18 (io), 17 pci_ad17 (io), 18 pci_ad16 (io), 20 pci_cbez2 (io), 22 pci_framez (io), 23 pci_irdyz (io), 24 pci_trdyz (io), 25 pci_devselz (io), 27 pci_stopz (io), 30 pci_perrz (io), 31 pci_serrz (oc), 32 pci_par (io), 34 pci_cbez1 (io), 36 pci_ad15 (io), 37 pci_ad14 (io), 38 pci_ad13 (io), 39 pci_ad12 (io), 41 pci_ad11 (io), 43 pci_ad10 (io), 44 pci_ad9 (io), 47 pci_ad8 (io), 48 pci_cbez0 (io), 50 pci_ad7 (io), 52 pci_ad6 (io), 53 pci_ad5 (io), 54 pci_ad4 (io), 55 pci_ad3 (io), 57 pci_ad2 (io), 58 pci_ad1 (io), 59 pci_ad0 (io), 61 aux_intz (in), 62 aux_rdy (in), 64 aux_clk (out), 66 aux_rstz (out), 67 ram_csz (out), 68 rom_csz (out), 69 aux_csz (out), 71 aux_wez1 (out), 73 aux_wez0 (out), 74 aux_oez (out), 76 aux_data15 (io), 77 aux_data14 (io), 78 aux_data13 (io), 80 aux_data12 (io), 81 aux_data11 (io), 82 aux_data10 (io), 83 aux_data9 (io), 85 aux_data8 (io), 87 aux_data7 (io), 88 aux_data6 (io), 90 aux_data5 (io), 91 aux_data4 (io), 92 aux_data3 (io), 94 aux_data2 (io), 96 aux_data1 (io), 97 aux_data0 (io), 98 aux_adr15 (out), 99 aux_adr14 (out), 101 aux_adr13 (out), 103 aux_adr12 (out), 104 aux_adr11 (out), 105 aux_adr10 (out), 106 aux_adr9 (out), 108 aux_adr8 (out), 110 aux_adr7 (out), 111 aux_adr6 (out), 112 aux_adr5 (out), 113 aux_adr4 (out), 115 aux_adr3 (out), 117 aux_adr2 (out), 118 aux_adr1 (out), 119 aux_adr0 (out), 122 gpio_data3 (io), 123 gpio_data2 (io), 124 gpio_data1 (io), 125 gpio_data0 (io), 126 zv_pix_clk (out), 127 zv_vsync (out), 129 zv_ext_clk (in), 131 zv_hsync (out), 132 zv_data_valid (out), 133 seeprom_clk (io), 134 seeprom_data (io), 137 link_cyclein (in), 139 link_cycleout (out), 140 test_out (out), 142 phy_ctl0 (io), 143 phy_ctl1 (io), 144 phy_ireq (out), 146 phy_data0 (io), 147 phy_data1 (io), 148 phy_data2 (io), 149 phy_data3 (io), 151 phy_data4 (io), 152 phy_data5 (io), 153 phy_data6 (io), 154 phy_data7 (io), 156 phy_clk50 (in), 159 autoboot (in), 161 pci_clk (in), 163 pci_resetz (in), 164 pci_gntz (in), 166 pci_intaz (oc), 167 pci_reqz (out), 169 pci_ad31 (io), 170 pci_ad30 (io), 171 pci_ad29 (io), 173 pci_ad28 (io), 174 pci_ad27 (io), 176 pci_ad26 (io)
part B pins: 1 3.3V VCC (power), 6 GND (power), 8 3.3V VCC (power), 12 5V VCC (power), 14 GND (power), 19 3.3V VCC (power), 21 GND (power), 26 3.3V VCC (power), 28 GND (power), 33 3.3V VCC (power), 35 GND (power), 40 5V VCC (power), 42 3.3V VCC (power), 45 GND (power), 49 3.3V VCC (power), 51 GND (power), 56 3.3V VCC (power), 60 5V VCC (power), 63 5V VCC (power), 65 GND (power), 70 3.3V VCC (power), 72 GND (power), 75 3.3V VCC (power), 79 GND (power), 84 5V VCC (power), 86 3.3V VCC (power), 89 GND (power), 93 3.3V VCC (power), 95 GND (power), 100 3.3V VCC (power), 102 GND (power), 107 3.3V VCC (power), 109 5V VCC (power), 114 GND (power), 116 3.3V VCC (power), 121 GND (power), 128 3.3V VCC (power), 130 GND (power), 135 5V VCC (power), 136 3.3V VCC (power), 138 3.3V VCC (power), 141 GND (power), 145 3.3V VCC (power), 150 GND (power), 155 GND (power), 157 3.3V VCC (power), 158 GND (power), 160 GND (power), 162 5V VCC (power), 165 3.3V VCC (power), 168 GND (power), 172 3.3V VCC (power), 175 GND (power)

## TSB12LV21APGF
designator U?
(PCILynx) IEEE 1394-1995 Bus to PCI Bus Interface; Note: Pins 2, 29,46,120 are NC and not drawn. Refer to manufacturers data Sheets RE Power Supply Requirements with 3.3V and 5V Power Supplies; ComponentAvailability: Obsolete; Published: 15-Apr-2002; LatestRevisionDate: 13-Apr-2006; LatestRevisionNote: IPC-7351 Footprint Added.; DatasheetVersion: Apr-1997; PackageVersion: Apr-1997; PackageReference: PGF176; Publisher: Altium Limited; PackageDescription: 176-Pin Thin Quad Flat Pack 0.5 mm Pitch; ComponentLink1Description: Manufacturer Link; ComponentLink1URL: http://www.ti.com/; ComponentLink2Description: Datasheet; ComponentLink2URL: http://www-s.ti.com/sc/ds/tsb12lv21a.pdf
footprint PGF176_N (Thin QFP, 176-Leads, Body 24x24mm, Pitch 0.5mm, IPC Medium Density)
footprint PGF176_L (Thin QFP, 176-Leads, Body 24x24mm, Pitch 0.5mm, IPC High Density)
footprint PGF176_M (Thin QFP, 176-Leads, Body 24x24mm, Pitch 0.5mm, IPC Low Density)
3D model TSB12LV21A-PGF176 (176-Pin Thin Quad Flat Pack 0.5 mm Pitch)
part A pins: 3 pci_ad25 (io), 4 pci_ad24 (io), 5 pci_cbez3 (io), 7 pci_idselz (io), 9 pci_ad23 (io), 10 pci_ad22 (io), 11 pci_ad21 (io), 13 pci_ad20 (io), 15 pci_ad19 (io), 16 pci_ad18 (io), 17 pci_ad17 (io), 18 pci_ad16 (io), 20 pci_cbez2 (io), 22 pci_framez (io), 23 pci_irdyz (io), 24 pci_trdyz (io), 25 pci_devselz (io), 27 pci_stopz (io), 30 pci_perrz (io), 31 pci_serrz (oc), 32 pci_par (io), 34 pci_cbez1 (io), 36 pci_ad15 (io), 37 pci_ad14 (io), 38 pci_ad13 (io), 39 pci_ad12 (io), 41 pci_ad11 (io), 43 pci_ad10 (io), 44 pci_ad9 (io), 47 pci_ad8 (io), 48 pci_cbez0 (io), 50 pci_ad7 (io), 52 pci_ad6 (io), 53 pci_ad5 (io), 54 pci_ad4 (io), 55 pci_ad3 (io), 57 pci_ad2 (io), 58 pci_ad1 (io), 59 pci_ad0 (io), 61 aux_intz (in), 62 aux_rdy (in), 64 aux_clk (out), 66 aux_rstz (out), 67 ram_csz (out), 68 rom_csz (out), 69 aux_csz (out), 71 aux_wez1 (out), 73 aux_wez0 (out), 74 aux_oez (out), 76 aux_data15 (io), 77 aux_data14 (io), 78 aux_data13 (io), 80 aux_data12 (io), 81 aux_data11 (io), 82 aux_data10 (io), 83 aux_data9 (io), 85 aux_data8 (io), 87 aux_data7 (io), 88 aux_data6 (io), 90 aux_data5 (io), 91 aux_data4 (io), 92 aux_data3 (io), 94 aux_data2 (io), 96 aux_data1 (io), 97 aux_data0 (io), 98 aux_adr15 (out), 99 aux_adr14 (out), 101 aux_adr13 (out), 103 aux_adr12 (out), 104 aux_adr11 (out), 105 aux_adr10 (out), 106 aux_adr9 (out), 108 aux_adr8 (out), 110 aux_adr7 (out), 111 aux_adr6 (out), 112 aux_adr5 (out), 113 aux_adr4 (out), 115 aux_adr3 (out), 117 aux_adr2 (out), 118 aux_adr1 (out), 119 aux_adr0 (out), 122 gpio_data3 (io), 123 gpio_data2 (io), 124 gpio_data1 (io), 125 gpio_data0 (io), 126 zv_pix_clk (out), 127 zv_vsync (out), 129 zv_ext_clk (in), 131 zv_hsync (out), 132 zv_data_valid (out), 133 seeprom_clk (io), 134 seeprom_data (io), 137 link_cyclein (in), 139 link_cycleout (out), 140 test_out (out), 142 phy_ctl0 (io), 143 phy_ctl1 (io), 144 phy_ireq (out), 146 phy_data0 (io), 147 phy_data1 (io), 148 phy_data2 (io), 149 phy_data3 (io), 151 phy_data4 (io), 152 phy_data5 (io), 153 phy_data6 (io), 154 phy_data7 (io), 156 phy_clk50 (in), 159 autoboot (in), 161 pci_clk (in), 163 pci_resetz (in), 164 pci_gntz (in), 166 pci_intaz (oc), 167 pci_reqz (out), 169 pci_ad31 (io), 170 pci_ad30 (io), 171 pci_ad29 (io), 173 pci_ad28 (io), 174 pci_ad27 (io), 176 pci_ad26 (io)
part B pins: 1 3.3V VCC (power), 6 GND (power), 8 3.3V VCC (power), 12 5V VCC (power), 14 GND (power), 19 3.3V VCC (power), 21 GND (power), 26 3.3V VCC (power), 28 GND (power), 33 3.3V VCC (power), 35 GND (power), 40 5V VCC (power), 42 3.3V VCC (power), 45 GND (power), 49 3.3V VCC (power), 51 GND (power), 56 3.3V VCC (power), 60 5V VCC (power), 63 5V VCC (power), 65 GND (power), 70 3.3V VCC (power), 72 GND (power), 75 3.3V VCC (power), 79 GND (power), 84 5V VCC (power), 86 3.3V VCC (power), 89 GND (power), 93 3.3V VCC (power), 95 GND (power), 100 3.3V VCC (power), 102 GND (power), 107 3.3V VCC (power), 109 5V VCC (power), 114 GND (power), 116 3.3V VCC (power), 121 GND (power), 128 3.3V VCC (power), 130 GND (power), 135 5V VCC (power), 136 3.3V VCC (power), 138 3.3V VCC (power), 141 GND (power), 145 3.3V VCC (power), 150 GND (power), 155 GND (power), 157 3.3V VCC (power), 158 GND (power), 160 GND (power), 162 5V VCC (power), 165 3.3V VCC (power), 168 GND (power), 172 3.3V VCC (power), 175 GND (power)

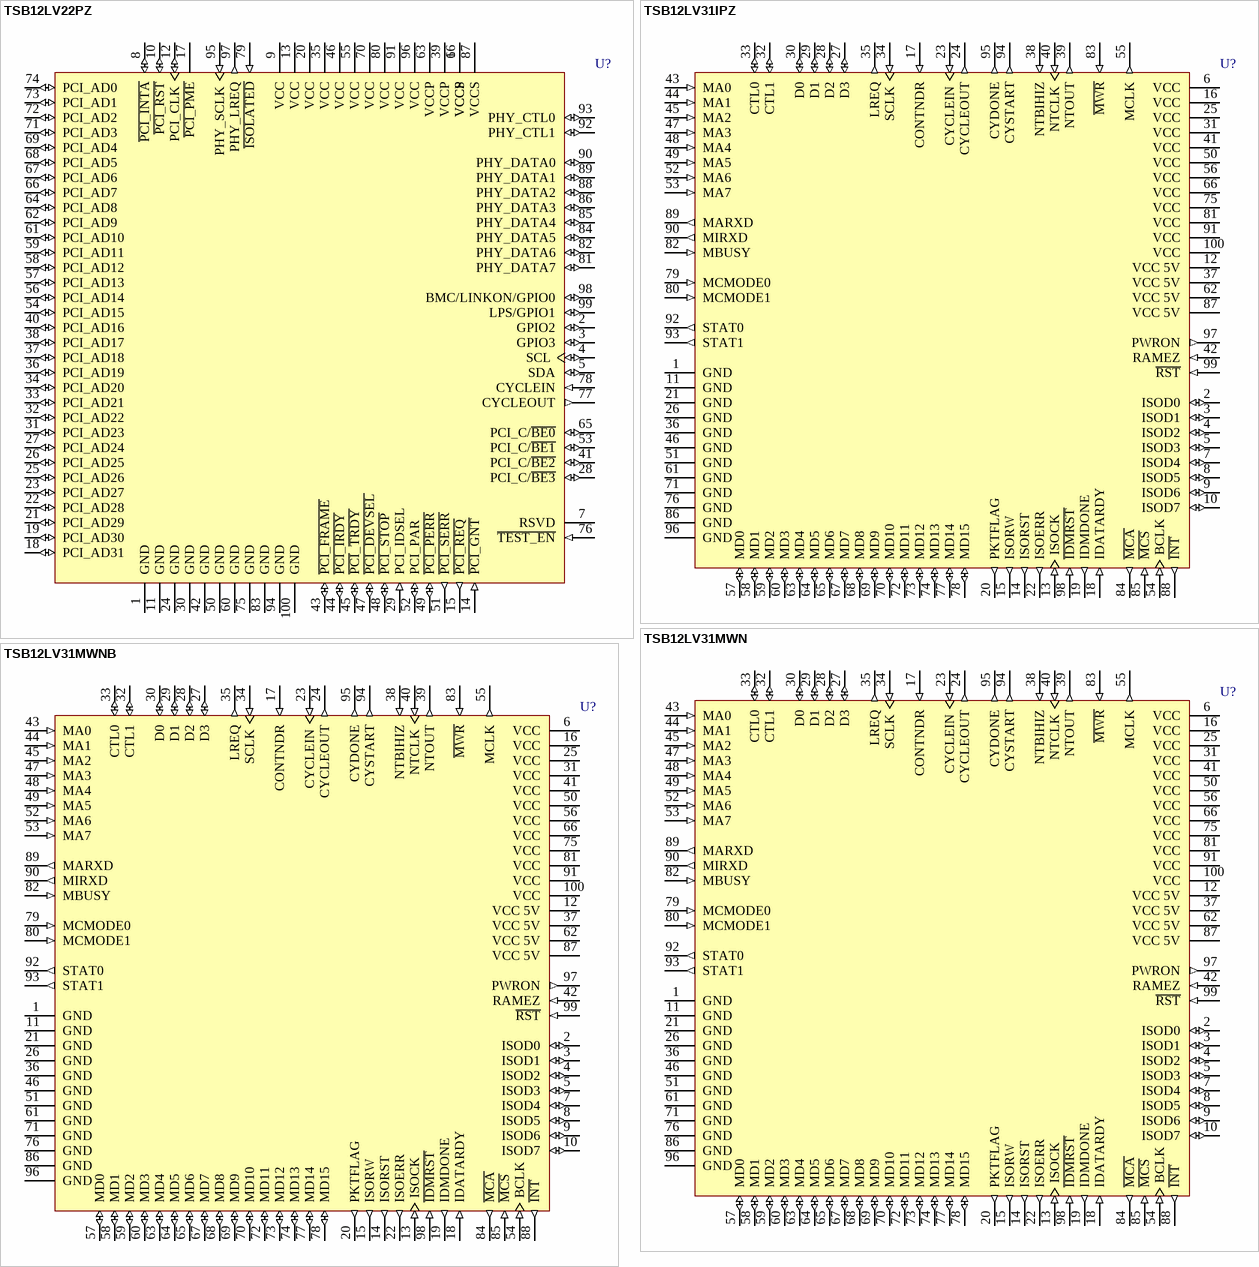
[diagram p4: symbols TSB12LV22PZ to TSB12LV31MWNB]

## TSB12LV22PZ
designator U?
OHCI-Lynx PCI-Based IEEE 1394 Host Controller; ComponentAvailability: Obsolete; Published: 15-Apr-2002; LatestRevisionDate: 13-Apr-2006; LatestRevisionNote: IPC-7351 Footprint Added.; DatasheetVersion: Jul-1998; PackageVersion: Jul-1998; PackageReference: PZP100; Publisher: Altium Limited; PackageDescription: 100-Pin Thin Quad Flat Pack 0.5 mm Pitch; ComponentLink1Description: Manufacturer Link; ComponentLink1URL: http://www.ti.com/; ComponentLink2Description: Datasheet; ComponentLink2URL: http://www-s.ti.com/sc/ds/tsb12lv22.pdf
footprint PZP100_N (Thin QFP, 100-Leads, Body 14x14mm, Pitch 0.5mm, IPC Medium Density)
footprint PZP100_L (Thin QFP, 100-Leads, Body 14x14mm, Pitch 0.5mm, IPC High Density)
footprint PZP100_M (Thin QFP, 100-Leads, Body 14x14mm, Pitch 0.5mm, IPC Low Density)
3D model TSB12LV22-PZP100 (100-Pin Thin Quad Flat Pack 0.5 mm Pitch)
pins: 1 GND (power), 2 GPIO2 (io), 3 GPIO3 (io), 4 SCL (io), 5 SDA (io), 6 VCCS (power), 7 RSVD, 8 ~{PCI_INTA} (io), 9 VCC (power), 10 ~{PCI_RST} (io), 11 GND (power), 12 PCI_CLK (io), 13 VCC (power), 14 ~{PCI_GNT} (in), 15 ~{PCI_REQ} (out), 16 VCCP (power), 17 ~{PCI_PME}, 18 PCI_AD31 (io), 19 PCI_AD30 (io), 20 VCC (power), 21 PCI_AD29 (io), 22 PCI_AD28 (io), 23 PCI_AD27 (io), 24 GND (power), 25 PCI_AD26 (io), 26 PCI_AD25 (io), 27 PCI_AD24 (io), 28 PCI_C/~{BE3} (io), 29 PCI_IDSEL (in), 30 GND (power), 31 PCI_AD23 (io), 32 PCI_AD22 (io), 33 PCI_AD21 (io), 34 PCI_AD20 (io), 35 VCC (power), 36 PCI_AD19 (io), 37 PCI_AD18 (io), 38 PCI_AD17 (io), 39 VCCP (power), 40 PCI_AD16 (io), 41 PCI_C/~{BE2} (io), 42 GND (power), 43 ~{PCI_FRAME} (io), 44 ~{PCI_IRDY} (io), 45 ~{PCI}_~{TRDY} (io), 46 VCC (power), 47 ~{PCI_DEVSEL} (io), 48 ~{PCI_STOP} (io), 49 ~{PCI_PERR} (io), 50 GND (power), 51 ~{PCI_SERR} (out), 52 PCI_PAR (io), 53 PCI_C/~{BE1} (io), 54 PCI_AD15 (io), 55 VCC (power), 56 PCI_AD14 (io), 57 PCI_AD13 (io), 58 PCI_AD12 (io), 59 PCI_AD11 (io), 60 GND (power), 61 PCI_AD10 (io), 62 PCI_AD9 (io), 63 VCCP (power), 64 PCI_AD8 (io), 65 PCI_C/~{BE0} (io), 66 PCI_AD7 (io), 67 PCI_AD6 (io), 68 PCI_AD5 (io), 69 PCI_AD4 (io), 70 VCC (power), 71 PCI_AD3 (io), 72 PCI_AD2 (io), 73 PCI_AD1 (io), 74 PCI_AD0 (io), 75 GND (power), 76 ~{TEST_EN} (in), 77 CYCLEOUT (out), 78 CYCLEIN (in), 79 ~{ISOLATED} (in), 80 VCC (power), 81 PHY_DATA7 (io), 82 PHY_DATA6 (io), 83 GND (power), 84 PHY_DATA5 (io), 85 PHY_DATA4 (io), 86 PHY_DATA3 (io), 87 VCCS (power), 88 PHY_DATA2 (io), 89 PHY_DATA1 (io), 90 PHY_DATA0 (io), 91 VCC (power), 92 PHY_CTL1 (io), 93 PHY_CTL0 (io), 94 GND (power), 95 PHY_SCLK (in), 96 VCC (power), 97 PHY_LREQ (out), 98 BMC/LINKON/GPIO0 (io), 99 LPS/GPIO1 (io), 100 GND (power)

## TSB12LV31IPZ
designator U?
IEEE 1394-1995 General-Purpose Link-Layer Controller; Note: Pin 23 should be tied high if not in use.  Pin 38 and 40 should be grounded and pin 39 should be left open for normal operation; ComponentAvailability: Obsolete; Published: 15-Apr-2002; LatestRevisionDate: 13-Apr-2006; LatestRevisionNote: IPC-7351 Footprint Added.; DatasheetVersion: Sep-1998; PackageVersion: Dec-1996; PackageReference: PZ100; Publisher: Altium Limited; PackageDescription: 100-Pin Thin Quad Flat Pack 0.5 mm Pitch; ComponentLink1Description: Manufacturer Link; ComponentLink1URL: http://www.ti.com/; ComponentLink2Description: Datasheet; ComponentLink2URL: http://www-s.ti.com/sc/ds/tsb12lv31.pdf
footprint PZ100_N (Thin QFP, 100-Leads, Body 14x14mm, Pitch 0.5mm, IPC Medium Density)
footprint PZ100_L (Thin QFP, 100-Leads, Body 14x14mm, Pitch 0.5mm, IPC High Density)
footprint PZ100_M (Thin QFP, 100-Leads, Body 14x14mm, Pitch 0.5mm, IPC Low Density)
3D model TSB12LV31-PZ100 (100-Pin Thin Quad Flat Pack 0.5 mm Pitch)
pins: 1 GND (power), 2 ISOD0 (io), 3 ISOD1 (io), 4 ISOD2 (io), 5 ISOD3 (io), 6 VCC (power), 7 ISOD4 (io), 8 ISOD5 (io), 9 ISOD6 (io), 10 ISOD7 (io), 11 GND (power), 12 VCC 5V (power), 13 ISOCK (in), 14 ISORST (out), 15 ISORW (out), 16 VCC (power), 17 CONTNDR (in), 18 IDATARDY (in), 19 IDMDONE (out), 20 PKTFLAG (out), 21 GND (power), 22 ISOERR (out), 23 CYCLEIN (in), 24 CYCLEOUT (out), 25 VCC (power), 26 GND (power), 27 D3 (io), 28 D2 (io), 29 D1 (io), 30 D0 (io), 31 VCC (power), 32 CTL1 (io), 33 CTL0 (io), 34 SCLK (in), 35 LREQ (out), 36 GND (power), 37 VCC 5V (power), 38 NTBIHIZ (in), 39 NTOUT (out), 40 NTCLK (in), 41 VCC (power), 42 RAMEZ (in), 43 MA0 (in), 44 MA1 (in), 45 MA2 (in), 46 GND (power), 47 MA3 (in), 48 MA4 (in), 49 MA5 (in), 50 VCC (power), 51 GND (power), 52 MA6 (in), 53 MA7 (in), 54 BCLK (in), 55 MCLK (out), 56 VCC (power), 57 MD0 (io), 58 MD1 (io), 59 MD2 (io), 60 MD3 (io), 61 GND (power), 62 VCC 5V (power), 63 MD4 (io), 64 MD5 (io), 65 MD6 (io), 66 VCC (power), 67 MD7 (io), 68 MD8 (io), 69 MD9 (io), 70 MD10 (io), 71 GND (power), 72 MD11 (io), 73 MD12 (io), 74 MD13 (io), 75 VCC (power), 76 GND (power), 77 MD14 (io), 78 MD15 (io), 79 MCMODE0 (in), 80 MCMODE1 (in), 81 VCC (power), 82 MBUSY (in), 83 ~{MWR} (in), 84 ~{MCA} (out), 85 ~{MCS} (in), 86 GND (power), 87 VCC 5V (power), 88 ~{INT} (out), 89 MARXD (out), 90 MIRXD (out), 91 VCC (power), 92 STAT0 (out), 93 STAT1 (out), 94 CYSTART (out), 95 CYDONE (out), 96 GND (power), 97 PWRON (out), 98 ~{IDMRST} (in), 99 ~{RST} (in), 100 VCC (power)

## TSB12LV31MWN
designator U?
IEEE 1394-1995 General-Purpose Link-Layer Controller; Note: Pin 23 should be tied high if not in use; ComponentAvailability: Obsolete; Published: 15-Apr-2002; LatestRevisionDate: 13-Apr-2006; LatestRevisionNote: IPC-7351 Footprint Added.; DatasheetVersion: Sep-1998; PackageVersion: Nov-1998; PackageReference: WN100; Publisher: Altium Limited; PackageDescription: 100-Pin Quad Flat Pack 0.65 mm Pitch; ComponentLink1Description: Manufacturer Link; ComponentLink1URL: http://www.ti.com/; ComponentLink2Description: Datasheet; ComponentLink2URL: http://www-s.ti.com/sc/ds/tsb12lv31.pdf
footprint WN100_N (QFP, 100-Leads, Body 19 x 19mm, Pitch 0.65mm, IPC Medium Density)
footprint WN100_L (QFP, 100-Leads, Body 19 x 19mm, Pitch 0.65mm, IPC High Density)
footprint WN100_M (QFP, 100-Leads, Body 19 x 19mm, Pitch 0.65mm, IPC Low Density)
3D model TSB12LV31-WN100 (100-Pin Quad Flat Pack 0.65 mm Pitch)
pins: 1 GND (power), 2 ISOD0 (io), 3 ISOD1 (io), 4 ISOD2 (io), 5 ISOD3 (io), 6 VCC (power), 7 ISOD4 (io), 8 ISOD5 (io), 9 ISOD6 (io), 10 ISOD7 (io), 11 GND (power), 12 VCC 5V (power), 13 ISOCK (in), 14 ISORST (out), 15 ISORW (out), 16 VCC (power), 17 CONTNDR (in), 18 IDATARDY (in), 19 IDMDONE (out), 20 PKTFLAG (out), 21 GND (power), 22 ISOERR (out), 23 CYCLEIN (in), 24 CYCLEOUT (out), 25 VCC (power), 26 GND (power), 27 D3 (io), 28 D2 (io), 29 D1 (io), 30 D0 (io), 31 VCC (power), 32 CTL1 (io), 33 CTL0 (io), 34 SCLK (in), 35 LREQ (out), 36 GND (power), 37 VCC 5V (power), 38 NTBIHIZ (in), 39 NTOUT (out), 40 NTCLK (in), 41 VCC (power), 42 RAMEZ (in), 43 MA0 (in), 44 MA1 (in), 45 MA2 (in), 46 GND (power), 47 MA3 (in), 48 MA4 (in), 49 MA5 (in), 50 VCC (power), 51 GND (power), 52 MA6 (in), 53 MA7 (in), 54 BCLK (in), 55 MCLK (out), 56 VCC (power), 57 MD0 (io), 58 MD1 (io), 59 MD2 (io), 60 MD3 (io), 61 GND (power), 62 VCC 5V (power), 63 MD4 (io), 64 MD5 (io), 65 MD6 (io), 66 VCC (power), 67 MD7 (io), 68 MD8 (io), 69 MD9 (io), 70 MD10 (io), 71 GND (power), 72 MD11 (io), 73 MD12 (io), 74 MD13 (io), 75 VCC (power), 76 GND (power), 77 MD14 (io), 78 MD15 (io), 79 MCMODE0 (in), 80 MCMODE1 (in), 81 VCC (power), 82 MBUSY (in), 83 ~{MWR} (in), 84 ~{MCA} (out), 85 ~{MCS} (in), 86 GND (power), 87 VCC 5V (power), 88 ~{INT} (out), 89 MARXD (out), 90 MIRXD (out), 91 VCC (power), 92 STAT0 (out), 93 STAT1 (out), 94 CYSTART (out), 95 CYDONE (out), 96 GND (power), 97 PWRON (out), 98 ~{IDMRST} (in), 99 ~{RST} (in), 100 VCC (power)

## TSB12LV31MWNB
designator U?
IEEE 1394-1995 General-Purpose Link-Layer Controller; Note: Pin 23 should be tied high if not in use; ComponentAvailability: Obsolete; Published: 15-Apr-2002; LatestRevisionDate: 13-Apr-2006; LatestRevisionNote: IPC-7351 Footprint Added.; DatasheetVersion: Sep-1998; PackageVersion: Nov-1998; PackageReference: WN100; Publisher: Altium Limited; PackageDescription: 100-Pin Quad Flat Pack 0.65 mm Pitch; ComponentLink1Description: Manufacturer Link; ComponentLink1URL: http://www.ti.com/; ComponentLink2Description: Datasheet; ComponentLink2URL: http://www-s.ti.com/sc/ds/tsb12lv31.pdf
footprint WN100_N (QFP, 100-Leads, Body 19 x 19mm, Pitch 0.65mm, IPC Medium Density)
footprint WN100_L (QFP, 100-Leads, Body 19 x 19mm, Pitch 0.65mm, IPC High Density)
footprint WN100_M (QFP, 100-Leads, Body 19 x 19mm, Pitch 0.65mm, IPC Low Density)
3D model TSB12LV31-WN100 (100-Pin Quad Flat Pack 0.65 mm Pitch)
pins: 1 GND (power), 2 ISOD0 (io), 3 ISOD1 (io), 4 ISOD2 (io), 5 ISOD3 (io), 6 VCC (power), 7 ISOD4 (io), 8 ISOD5 (io), 9 ISOD6 (io), 10 ISOD7 (io), 11 GND (power), 12 VCC 5V (power), 13 ISOCK (in), 14 ISORST (out), 15 ISORW (out), 16 VCC (power), 17 CONTNDR (in), 18 IDATARDY (in), 19 IDMDONE (out), 20 PKTFLAG (out), 21 GND (power), 22 ISOERR (out), 23 CYCLEIN (in), 24 CYCLEOUT (out), 25 VCC (power), 26 GND (power), 27 D3 (io), 28 D2 (io), 29 D1 (io), 30 D0 (io), 31 VCC (power), 32 CTL1 (io), 33 CTL0 (io), 34 SCLK (in), 35 LREQ (out), 36 GND (power), 37 VCC 5V (power), 38 NTBIHIZ (in), 39 NTOUT (out), 40 NTCLK (in), 41 VCC (power), 42 RAMEZ (in), 43 MA0 (in), 44 MA1 (in), 45 MA2 (in), 46 GND (power), 47 MA3 (in), 48 MA4 (in), 49 MA5 (in), 50 VCC (power), 51 GND (power), 52 MA6 (in), 53 MA7 (in), 54 BCLK (in), 55 MCLK (out), 56 VCC (power), 57 MD0 (io), 58 MD1 (io), 59 MD2 (io), 60 MD3 (io), 61 GND (power), 62 VCC 5V (power), 63 MD4 (io), 64 MD5 (io), 65 MD6 (io), 66 VCC (power), 67 MD7 (io), 68 MD8 (io), 69 MD9 (io), 70 MD10 (io), 71 GND (power), 72 MD11 (io), 73 MD12 (io), 74 MD13 (io), 75 VCC (power), 76 GND (power), 77 MD14 (io), 78 MD15 (io), 79 MCMODE0 (in), 80 MCMODE1 (in), 81 VCC (power), 82 MBUSY (in), 83 ~{MWR} (in), 84 ~{MCA} (out), 85 ~{MCS} (in), 86 GND (power), 87 VCC 5V (power), 88 ~{INT} (out), 89 MARXD (out), 90 MIRXD (out), 91 VCC (power), 92 STAT0 (out), 93 STAT1 (out), 94 CYSTART (out), 95 CYDONE (out), 96 GND (power), 97 PWRON (out), 98 ~{IDMRST} (in), 99 ~{RST} (in), 100 VCC (power)

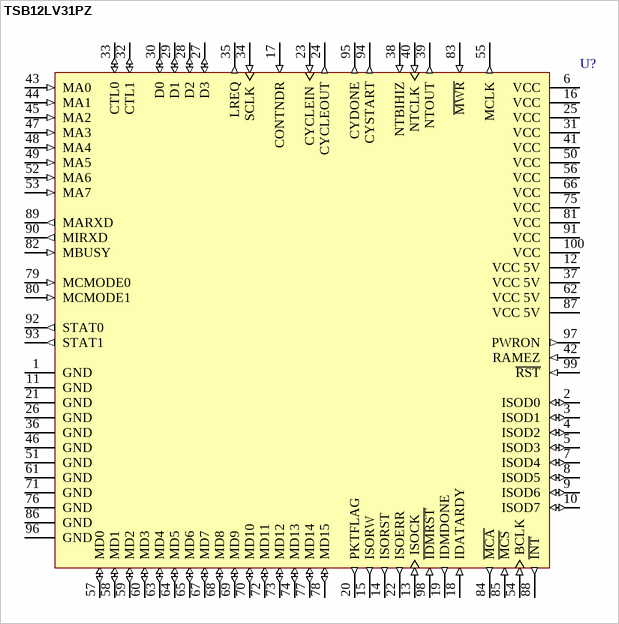
[diagram p5: symbol TSB12LV31PZ]